# Altium footprint library myConnectors.PcbLib: 58 footprints (part 1 of 4)
Each footprint in its own frame and in the unit in brackets; x right, y up, seen from the top. Pads: shape width x height; smd on the part's side, far side on the other; paste and mask are expansions set on the pad; w line width, h text height; cw(c..) or ccw(c..) is an arc to the next point about the centre after c.
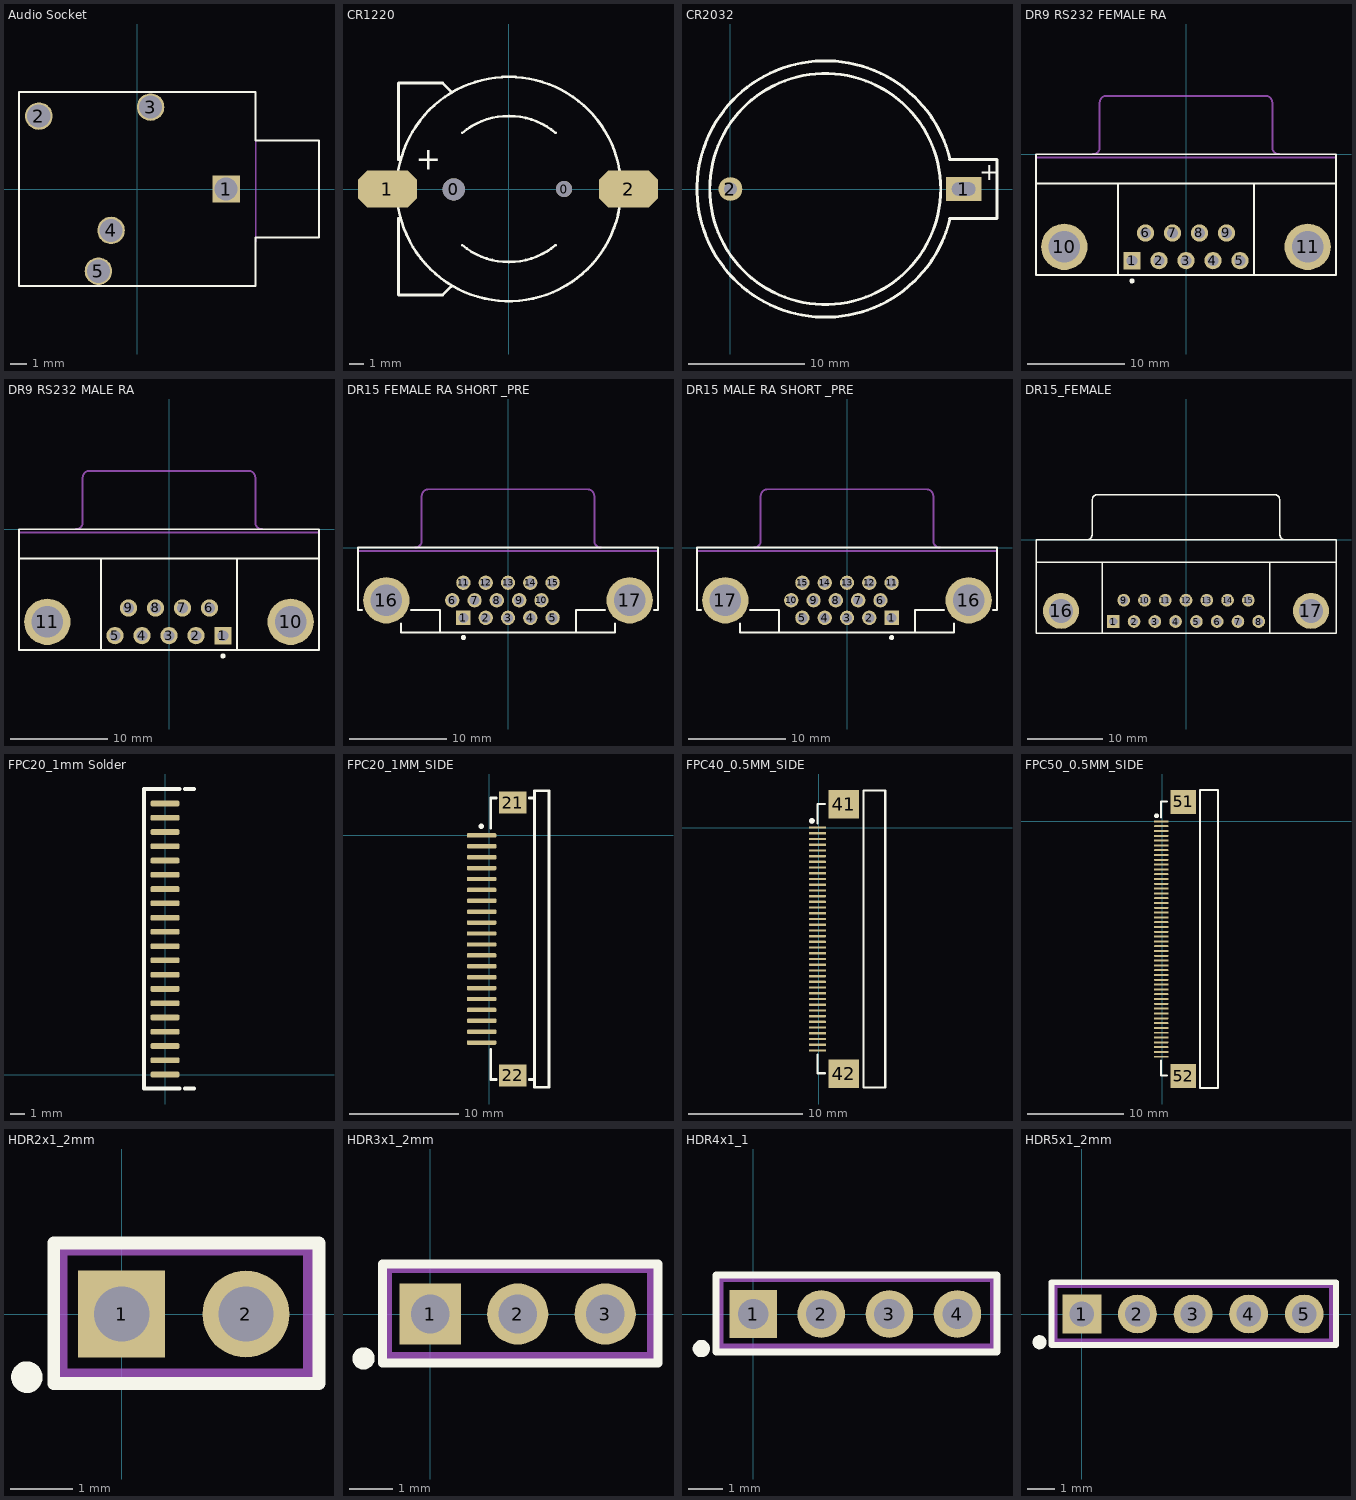
[diagram p0: the footprints below, top view; thin cyan lines are the x and y axes]

## Audio Socket [mil]
height 250
pads (5):
  rect 65x65 hole 55: 1(210,0)
  round 65 hole 55: 2(-233,172.5) 3(31.5,194) 4(-62,-98) 5(-92,-194.5)
Top Overlay:
  lines w5: -280,-230 -280,230 280,230 280,115 430,115 430,-115 280,-115 280,-230 -280,-230
Mechanical 1:
  lines w3.94: 280,-125 280,115
  text "PCB Edge" at 285,105 h9.84
3D body: height 250, standoff 0, extent -280,-230 430,230

## CR1220 [mm]
pads (4):
  round 1.5 hole 1.5 unplated: 0(-3.75,-0.025)
  round 1.1 hole 1.1 unplated: 0(3.75,0)
  oct 4x2.5 smd: 1(-8.255,0) 2(8.128,0)
Top Overlay:
  lines w0.178: -7.574,-0.833 ccw(c0,0) 7.574,-0.833 ; -7.574,0.833 cw(c0,0) 0,7.62 cw(c0,0) 7.574,0.833 ; -7.5,-2 -7.5,-7.2 -4.5,-7.2 -3.925,-6.625 ; -7.5,2 -7.5,7.2 -4.5,7.2 -3.9,6.6 ; -3.175,-3.81 ccw(c0,0) 3.172,-3.812 ; -3.169,3.815 cw(c0,0) 3.172,3.812
  text "+" at -6.325,1.321 h1.52
3D body: height 2.54, standoff 0, extent -7.518,-7.62 7.569,7.595

## CR2032 [mil]
pads (2):
  rect 120x80 hole 45 slot 80 at 0 deg: 1(787.4,0)
  round 80 hole 45: 2(0,0)
Top Overlay:
  circle w10: c320,0 r390
  lines w10: 740,-100 900,-100 900,100 740,100 ; 741.23,-100.29 cw(c320,0) 741.23,100.29
  text "+" at 840,30 h60
3D body: height 10, standoff 0, extent -110,-430 900,435

## DR9 RS232 FEMALE RA [mm] "9-PIN RS232 PORT FEMALE, RIGHT ANGLE"
height 12.5
pads (11):
  rect 1.778x1.778 hole 1.09: 1(-5.54,-10.92)
  round 1.778 hole 1.09: 2(-2.77,-10.92) 3(0,-10.92) 4(2.77,-10.92) 5(5.54,-10.92) 6(-4.155,-8.08) 7(-1.385,-8.08) 8(1.385,-8.08) 9(4.155,-8.08)
  round 4.76 hole 3.26: 10(-12.495,-9.5) 11(12.495,-9.5)
Top Overlay:
  circle w0.254: c-5.54,-13.005 r0.127
  lines w0.2: -15.4,-3 15.4,-3 ; -7,-12.4 -7,-3 ; 7,-12.4 7,-3 ; -15.4,-12.4 -15.4,0 15.4,0 15.4,-12.4 -15.4,-12.4
Mechanical 13:
  lines w0.2: -15.4,-0.33 15.4,-0.33 ; -9.56,0.005 ccw(c-9.56,0.7) -8.865,0.7 -8.865,5.3 ; -8.86,5.305 cw(c-8.165,5.305) -8.165,6 8.165,6 cw(c8.165,5.305) 8.86,5.305 ; 8.865,5.3 8.865,0.7 ccw(c9.56,0.7) 9.56,0.005
3D body: height 12.5, standoff 0, extent -15.367,-12.446 15.367,0

## DR9 RS232 MALE RA [mm] "9-PIN RS232 PORT MALE, RIGHT ANGLE"
height 12.5
pads (11):
  rect 1.778x1.778 hole 1.09: 1(5.54,-10.92)
  round 1.778 hole 1.09: 2(2.77,-10.92) 3(0,-10.92) 4(-2.77,-10.92) 5(-5.54,-10.92) 6(4.155,-8.08) 7(1.385,-8.08) 8(-1.385,-8.08) 9(-4.155,-8.08)
  round 4.76 hole 3.26: 10(12.495,-9.5) 11(-12.495,-9.5)
Top Overlay:
  circle w0.254: c5.54,-13.005 r0.127
  lines w0.2: -15.4,-3 15.4,-3 ; -7,-12.4 -7,-3 ; 7,-12.4 7,-3 ; -15.4,-12.4 -15.4,0 15.4,0 15.4,-12.4 -15.4,-12.4
Mechanical 13:
  lines w0.2: -15.4,-0.33 15.4,-0.33 ; -9.56,0.005 ccw(c-9.56,0.7) -8.865,0.7 -8.865,5.3 ; -8.86,5.305 cw(c-8.165,5.305) -8.165,6 8.165,6 cw(c8.165,5.305) 8.86,5.305 ; 8.865,5.3 8.865,0.7 ccw(c9.56,0.7) 9.56,0.005
3D body: height 12.5, standoff 0, extent -15.367,-12.446 15.367,0

## DR15 FEMALE RA SHORT _PRE [mil] "15-PIN FEMALE, 3-ROW, RIGHT ANGLE, SHORT"
height 492.13
pads (17):
  rect 58x58 hole 40: 1(-180.31,-283.46)
  round 58 hole 40: 2(-90.16,-283.46) 3(0,-283.46) 4(90.16,-283.46) 5(180.31,-283.46) 6(-225.39,-212.6) 7(-135.24,-212.6) 8(-45.08,-212.6) 9(45.08,-212.6) 10(135.24,-212.6) 11(-180.31,-141.73) 12(-90.16,-141.73) 13(0,-141.73) 14(90.16,-141.73) 15(180.31,-141.73)
  round 187.4 hole 128.35: 16(-491.93,-212.6) 17(491.93,-212.6)
Top Overlay:
  circle w10: c-180.31,-363 r5
  lines w7.87: -590,-251 -606.3,-251 -606.3,0 606.3,0 606.3,-250.7 606,-251 589.7,-251 ; -433,-306 -433,-342.52 433.07,-342.52 433.07,-306 ; -393,-251.97 -275.59,-251.97 ; -275.59,-342 -275.59,-252 ; 275.59,-342 275.59,-251.97 393,-251.97
Mechanical 13:
  lines w7.87: -606.3,-13 606.3,-13 ; -376.38,0.2 ccw(c-376.38,27.56) -349.02,27.56 -349.02,208.66 ; -348.82,208.86 cw(c-321.46,208.86) -321.46,236.22 321.46,236.22 cw(c321.46,208.86) 348.82,208.86 ; 349.02,208.66 349.02,27.56 ccw(c376.38,27.56) 376.38,0.2
3D body: height 492.13, standoff 0, extent -607,-341 608,0

## DR15 MALE RA SHORT _PRE [mil] "15-PIN MALE, 3-ROW, RIGHT ANGLE, SHORT"
height 492.13
pads (17):
  rect 58x58 hole 40: 1(180.31,-283.46)
  round 58 hole 40: 2(90.16,-283.46) 3(0,-283.46) 4(-90.16,-283.46) 5(-180.31,-283.46) 6(135.24,-212.6) 7(45.08,-212.6) 8(-45.08,-212.6) 9(-135.24,-212.6) 10(-225.39,-212.6) 11(180.31,-141.73) 12(90.16,-141.73) 13(0,-141.73) 14(-90.16,-141.73) 15(-180.31,-141.73)
  round 187.4 hole 128.35: 16(491.93,-212.6) 17(-491.93,-212.6)
Top Overlay:
  circle w10: c180.31,-363 r5
  lines w7.87: -590,-251 -606.3,-251 -606.3,0 606.3,0 606.3,-250.7 606,-251 589.7,-251 ; -433,-306 -433,-342.52 433.07,-342.52 433.07,-306 ; -393,-251.97 -275.59,-251.97 ; -275.59,-342 -275.59,-252 ; 275.59,-342 275.59,-251.97 393,-251.97
Mechanical 13:
  lines w7.87: -606.3,-13 606.3,-13 ; -376.38,0.2 ccw(c-376.38,27.56) -349.02,27.56 -349.02,208.66 ; -348.82,208.86 cw(c-321.46,208.86) -321.46,236.22 321.46,236.22 cw(c321.46,208.86) 348.82,208.86 ; 349.02,208.66 349.02,27.56 ccw(c376.38,27.56) 376.38,0.2
3D body: height 492.13, standoff 0, extent -607,-341 608,0

## DR15_FEMALE [mm] "Connector; D Subminiature; 15 Position; Right Angle; Pitch 1.385 mm"
height 12.75
pads (17):
  rect 1.69x1.69 hole 1.09: 1(-9.695,-10.92)
  round 1.69 hole 1.09: 2(-6.925,-10.92) 3(-4.155,-10.92) 4(-1.385,-10.92) 5(1.385,-10.92) 6(4.155,-10.92) 7(6.925,-10.92) 8(9.695,-10.92) 9(-8.31,-8.08) 10(-5.54,-8.08) 11(-2.77,-8.08) 12(0,-8.08) 13(2.77,-8.08) 14(5.54,-8.08) 15(8.31,-8.08)
  round 4.8 hole 3.18: 16(-16.66,-9.5) 17(16.66,-9.5)
Top Overlay:
  lines w0.2: -20,-3 20,-3 ; -13.195,0.005 ccw(c-13.195,0.7) -12.5,0.7 -12.5,5.3 ; -12.495,5.305 cw(c-11.8,5.305) -11.8,6 11.8,6 cw(c11.8,5.305) 12.495,5.305 ; -11.14,-12.5 -11.14,-3 ; 11.14,-12.5 11.14,-3 ; 12.5,5.3 12.5,0.7 ccw(c13.195,0.7) 13.195,0.005 ; -20,-12.5 -20,0 20,0 20,-12.5 -20,-12.5
3D body: height 12.5, standoff 0, extent -20.041,-12.497 19.99,6.02

## FPC20_1mm Solder [mm] "FPC 20-Pin, Solder Pads"
height 0.3
pads (20):
  rrect50% 2.032x0.4 smd: 1(0,0) 2(0,1) 3(0,2) 4(0,3) 5(0,4) 6(0,5) 7(0,6) 8(0,7) 9(0,8) 10(0,9) 11(0,10) 12(0,11) 13(0,12) 14(0,13) 15(0,14) 16(0,15) 17(0,16) 18(0,17) 19(0,18) 20(0,19)
Top Overlay:
  lines w0.254: 1.016,-0.985 -1.473,-0.985 -1.473,20.015 1.016,20.015 ; 1.397,-0.985 2.032,-0.985 ; 1.397,20.015 2.032,20.015
3D body: height 0.3, standoff 0, extent -1.473,-0.991 1.397,20.015

## FPC20_1MM_SIDE [mm] "FPC Socket, 1mm pitch, 20-Pin, Side Mount"
height 2.489
pads (22):
  rrect50% 2.7x0.4 smd: 1(-0.7,0) 2(-0.7,-1) 3(-0.7,-2) 4(-0.7,-3) 5(-0.7,-4) 6(-0.7,-5) 7(-0.7,-6) 8(-0.7,-7) 9(-0.7,-8) 10(-0.7,-9) 11(-0.7,-10) 12(-0.7,-11) 13(-0.7,-12) 14(-0.7,-13) 15(-0.7,-14) 16(-0.7,-15) 17(-0.7,-16) 18(-0.7,-17) 19(-0.7,-18) 20(-0.7,-19)
  rect 2.5x2 smd: 21(2.15,3) 22(2.15,-22)
Top Overlay:
  circle w0.25: c-0.735,0.838 r0.125
  lines w0.254: 0.127,-19.609 0.127,-22.377 0.635,-22.377 ; 0.127,0.66 0.127,3.429 0.635,3.429 ; 3.658,-22.377 4.115,-22.377 ; 3.658,3.429 4.115,3.429 ; 4.14,-23.089 5.486,-23.089 5.486,4.089 4.14,4.089 4.14,-23.089
3D body: height 2.44, standoff 0, extent 0.127,-23.089 5.486,4.089

## FPC40_0.5MM_SIDE [mm] "FPC Socket, 0.5mm pitch, 40-Pin, Side Mount"
height 2.489
pads (42):
  rrect50% 1.5x0.2 smd: 1(-0.127,0) 2(-0.127,-0.5) 3(-0.127,-1) 4(-0.127,-1.5) 5(-0.127,-2) 6(-0.127,-2.5) 7(-0.127,-3) 8(-0.127,-3.5) 9(-0.127,-4) 10(-0.127,-4.5) 11(-0.127,-5) 12(-0.127,-5.5) 13(-0.127,-6) 14(-0.127,-6.5) 15(-0.127,-7) 16(-0.127,-7.5) 17(-0.127,-8) 18(-0.127,-8.5) 19(-0.127,-9) 20(-0.127,-9.5) 21(-0.127,-10) 22(-0.127,-10.5) 23(-0.127,-11) 24(-0.127,-11.5) 25(-0.127,-12) 26(-0.127,-12.5) 27(-0.127,-13) 28(-0.127,-13.5) 29(-0.127,-14) 30(-0.127,-14.5) 31(-0.127,-15) 32(-0.127,-15.5) 33(-0.127,-16) 34(-0.127,-16.5) 35(-0.127,-17) 36(-0.127,-17.5) 37(-0.127,-18) 38(-0.127,-18.5) 39(-0.127,-19) 40(-0.127,-19.5)
  rect 2.7x2.5 smd: 41(2.175,2.025) 42(2.175,-21.525)
Top Overlay:
  circle w0.25: c-0.608,0.584 r0.125
  lines w0.2: -0.127,-19.888 -0.127,-21.488 0.508,-21.488 ; -0.127,0.381 -0.127,2.057 0.508,2.057 ; 3.898,-22.75 3.898,3.25 5.798,3.25 5.798,-22.75 3.898,-22.75
3D body: height 2.44, standoff 0, extent -0.127,-22.733 5.842,3.302

## FPC50_0.5MM_SIDE [mm] "FPC Socket, 0.5mm pitch, 50-Pin, Side Mount"
height 2.489
pads (52):
  rrect50% 1.5x0.2 smd: 1(-0.127,0) 2(-0.127,-0.5) 3(-0.127,-1) 4(-0.127,-1.5) 5(-0.127,-2) 6(-0.127,-2.5) 7(-0.127,-3) 8(-0.127,-3.5) 9(-0.127,-4) 10(-0.127,-4.5) 11(-0.127,-5) 12(-0.127,-5.5) 13(-0.127,-6) 14(-0.127,-6.5) 15(-0.127,-7) 16(-0.127,-7.5) 17(-0.127,-8) 18(-0.127,-8.5) 19(-0.127,-9) 20(-0.127,-9.5) 21(-0.127,-10) 22(-0.127,-10.5) 23(-0.127,-11) 24(-0.127,-11.5) 25(-0.127,-12) 26(-0.127,-12.5) 27(-0.127,-13) 28(-0.127,-13.5) 29(-0.127,-14) 30(-0.127,-14.5) 31(-0.127,-15) 32(-0.127,-15.5) 33(-0.127,-16) 34(-0.127,-16.5) 35(-0.127,-17) 36(-0.127,-17.5) 37(-0.127,-18) 38(-0.127,-18.5) 39(-0.127,-19) 40(-0.127,-19.5) 41(-0.127,-20.012) 42(-0.127,-20.512) 43(-0.127,-21.012) 44(-0.127,-21.512) 45(-0.127,-22.012) 46(-0.127,-22.512) 47(-0.127,-23.012) 48(-0.127,-23.512) 49(-0.127,-24.012) 50(-0.127,-24.512)
  rect 2.7x2.5 smd: 51(2.175,2.025) 52(2.175,-26.525)
Top Overlay:
  circle w0.25: c-0.608,0.584 r0.125
  lines w0.2: -0.127,-24.888 -0.127,-26.488 0.508,-26.488 ; -0.127,0.381 -0.127,2.057 0.508,2.057 ; 3.898,-27.75 5.798,-27.75 5.798,3.25 3.898,3.25 3.898,-27.75
3D body: height 2.44, standoff 0, extent -0.127,-27.813 5.842,3.302

## HDR2x1_2mm [mil]
height 354.33
pads (2):
  rect 55x55 hole 35: 1(0,0)
  round 55 hole 35: 2(78.74,0)
Top Overlay:
  circle w10: c-60,-40 r5
  lines w8: -43,-44 125,-44 125,45 -43,45 -43,-44
Mechanical 13:
  lines w10: -39.37,-39.37 -39.37,42 120,42 120,-39.37 -39.37,-39.37
3D body: height 354.33, standoff 0, extent -43,-45 125,45

## HDR3x1_2mm [mil]
height 354.33
pads (3):
  rect 55x55 hole 35: 1(0,0)
  round 55 hole 35: 2(78.74,0) 3(157.48,0)
Top Overlay:
  circle w10: c-60,-40 r5
  lines w8: -43,-44 205,-44 205,45 -43,45 -43,-44
Mechanical 13:
  lines w10: -39.37,-39.37 -39.37,42 200,42 200,-39.37 -39.37,-39.37
3D body: height 354.33, standoff 0, extent -43,-45 205,45

## HDR4x1_1 [mil]
height 354.33
pads (4):
  rect 55x55 hole 35: 1(0,0)
  round 55 hole 35: 2(78.74,0) 3(157.48,0) 4(236.22,0)
Top Overlay:
  circle w10: c-60,-40 r5
  lines w8: -43,-44 282,-44 282,45 -43,45 -43,-44
Mechanical 13:
  lines w10: -39.37,-39.37 -39.37,42 279,42 279,-39.37 -39.37,-39.37
3D body: height 354.33, standoff 0, extent -43,-44 282,45

## HDR5x1_2mm [mil]
height 354.33
pads (5):
  rect 55x55 hole 35: 1(0,0)
  round 55 hole 35: 2(78.74,0) 3(157.48,0) 4(236.22,0) 5(314.96,0)
Top Overlay:
  circle w10: c-60,-40 r5
  lines w8: -43,-44 360,-44 360,45 -43,45 -43,-44
Mechanical 13:
  lines w10: -39.37,-39.37 -39.37,42 355,42 355,-39.37 -39.37,-39.37
3D body: height 354.33, standoff 0, extent -43,-45 360,45